# Altium schematic symbol library 原理图库.SchLib: 8 symbols
Pins are listed as number, name and electrical type; pins without a type are passive.

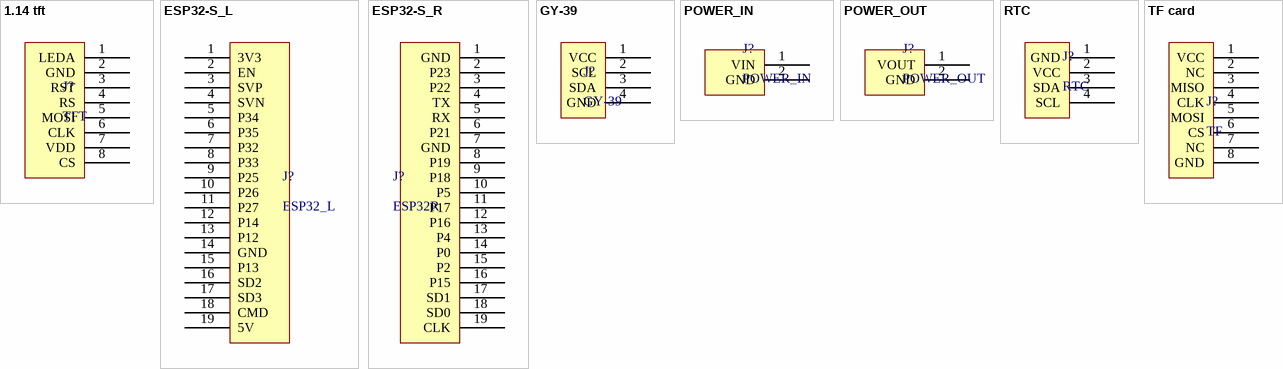
[diagram p0: symbols 1.14 tft to TF card]

## 1.14 tft
designator J?, comment TFT
TFT槽
pins: 1 LEDA, 2 GND, 3 RST, 4 RS, 5 MOSI, 6 CLK, 7 VDD, 8 CS

## ESP32-S_L
designator J?, comment ESP32_L
ESP32左槽
pins: 1 3V3, 2 EN, 3 SVP, 4 SVN, 5 P34, 6 P35, 7 P32, 8 P33, 9 P25, 10 P26, 11 P27, 12 P14, 13 P12, 14 GND, 15 P13, 16 SD2, 17 SD3, 18 CMD, 19 5V

## ESP32-S_R
designator J?, comment ESP32R
ESP32右槽
pins: 1 GND, 2 P23, 3 P22, 4 TX, 5 RX, 6 P21, 7 GND, 8 P19, 9 P18, 10 P5, 11 P17, 12 P16, 13 P4, 14 P0, 15 P2, 16 P15, 17 SD1, 18 SD0, 19 CLK

## GY-39
designator J?
GY-39模块槽
pins: 1 VCC, 2 SCL, 3 SDA, 4 GND

## POWER_IN
designator J?
pins: 1 VIN, 2 GND

## POWER_OUT
designator J?
pins: 1 VOUT, 2 GND

## RTC
designator J?
时钟模块槽
pins: 1 GND, 2 VCC, 3 SDA, 4 SCL

## TF card
designator J?, comment TF
TF卡模块槽
pins: 1 VCC, 2 NC, 3 MISO, 4 CLK, 5 MOSI, 6 CS, 7 NC, 8 GND